# EAGLE library part PCBMOUNT-20 (library domestichacks)
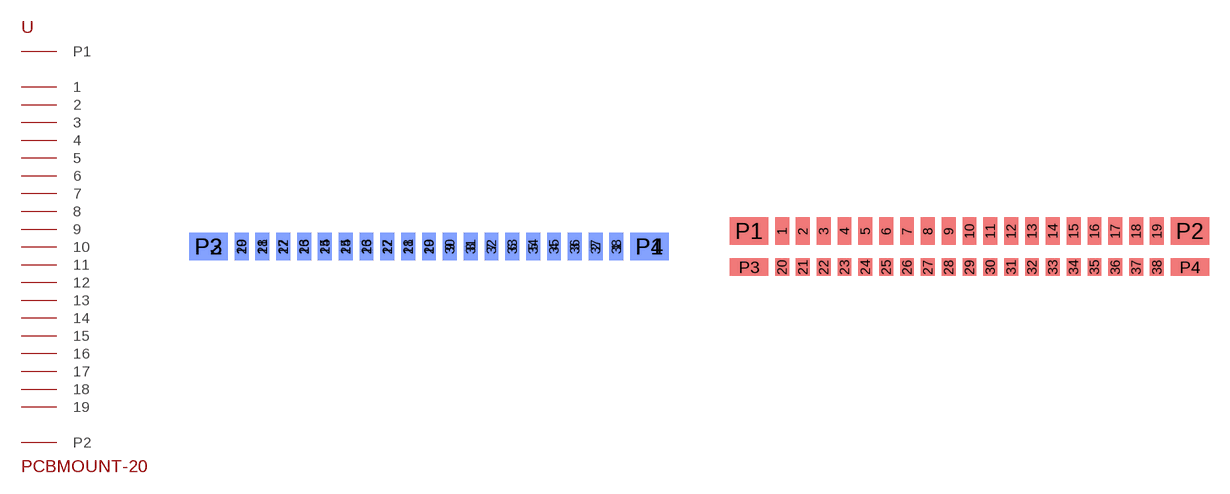
[diagram p3: symbol with the pads of PCBMOUNT-VERTICAL-20-2; footprints PCBMOUNT-VERTICAL-20-2, PCBMOUNT-VERTICAL-20]

Designator prefix -

## PCBMOUNT-20SECOND  [PCBMOUNT-VERTICAL-20-2]
1  1
2  2
3  3
4  4
5  5
6  6
7  7
8  8
9  9
10  10
11  11
12  12
13  13
14  14
15  15
16  16
17  17
18  18
19  19
P1  P1
P2  P2

## PCBMOUNT-20FIRST  [PCBMOUNT-VERTICAL-20]
Pads as for PCBMOUNT-VERTICAL-20-2

## Footprint PCBMOUNT-VERTICAL-20-2 (pad centres in mm)
smd 1.016 x 2: 1 31.496,1; 2 29.972,1; 3 28.448,1; 4 26.924,1; 5 25.4,1; 6 23.876,1; 7 22.352,1; 8 20.828,1; 9 19.304,1; 10 17.78,1; 11 16.256,1; 12 14.732,1; 13 13.208,1; 14 11.684,1; 15 10.16,1; 16 8.636,1; 17 7.112,1; 18 5.588,1; 19 4.064,1
smd 1.016 x 2 bottom: 20 4.064,1; 21 5.588,1; 22 7.112,1; 23 8.636,1; 24 10.16,1; 25 11.684,1; 26 13.208,1; 27 14.732,1; 28 16.256,1; 29 17.78,1; 30 19.304,1; 31 20.828,1; 32 22.352,1; 33 23.876,1; 34 25.4,1; 35 26.924,1; 36 28.448,1; 37 29.972,1; 38 31.496,1
smd 2.794 x 2: P1 33.909,1; P2 1.651,1
smd 2.794 x 2 bottom: P3 1.649,1; P4 33.909,1

## Footprint PCBMOUNT-VERTICAL-20 (pad centres in mm)
smd 1.016 x 2: 1 4.064,1; 2 5.588,1; 3 7.112,1; 4 8.636,1; 5 10.16,1; 6 11.684,1; 7 13.208,1; 8 14.732,1; 9 16.256,1; 10 17.78,1; 11 19.304,1; 12 20.828,1; 13 22.352,1; 14 23.876,1; 15 25.4,1; 16 26.924,1; 17 28.448,1; 18 29.972,1; 19 31.496,1
smd 1.016 x 1.27: 20 4.064,-1.635; 21 5.588,-1.635; 22 7.112,-1.635; 23 8.636,-1.635; 24 10.16,-1.635; 25 11.684,-1.635; 26 13.208,-1.635; 27 14.732,-1.635; 28 16.256,-1.635; 29 17.78,-1.635; 30 19.304,-1.635; 31 20.828,-1.635; 32 22.352,-1.635; 33 23.876,-1.635; 34 25.4,-1.635; 35 26.924,-1.635; 36 28.448,-1.635; 37 29.972,-1.635; 38 31.496,-1.635
smd 2.794 x 2: P1 1.651,1; P2 33.909,1
smd 2.794 x 1.27: P3 1.651,-1.635; P4 33.909,-1.635